# Altium schematic symbol library UA78M33CDCYG3.SchLib: 1 symbol
Pins are listed as number, name and electrical type; pins without a type are passive.

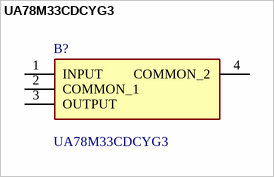
[diagram p0: symbol UA78M33CDCYG3]

## UA78M33CDCYG3
designator B?
Linear Voltage Regulators 3.3 V 500mA Fix Pos Voltage Regulator; Manufacturer_Name: Texas Instruments; Geometry.Height: 1.8mm; Mouser Part Number: 595-UA78M33CDCYG3; Mouser Price/Stock: https://www.mouser.co.uk/ProductDetail/Texas-Instruments/UA78M33CDCYG3?qs=0O%2FZFlpUpJU0kFSZAC76Kw%3D%3D; Manufacturer_Part_Number: UA78M33CDCYG3; Datasheet Link: http://www.ti.com/lit/ds/symlink/ua78m.pdf
footprint SOT230P700X180-4N
pins: 1 INPUT, 2 COMMON_1, 3 OUTPUT, 4 COMMON_2